# Altium schematic symbol library myLib.SchLib: 2 symbols
Pins are listed as number, name and electrical type; pins without a type are passive.

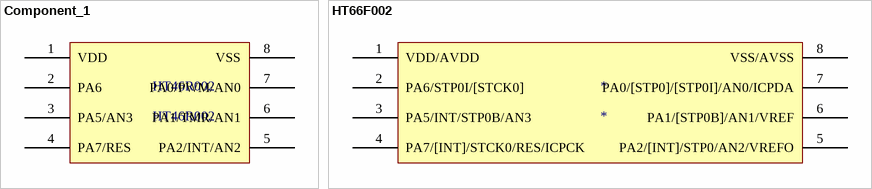
[diagram p0: symbols Component_1 to HT66F002]

## Component_1
designator HT46R002, comment HT46R002
pins: 1 VDD, 2 PA6, 3 PA5/AN3, 4 PA7/RES, 5 PA2/INT/AN2, 6 PA1/TMR/AN1, 7 PA0/PWM/AN0, 8 VSS

## HT66F002
designator *
pins: 1 VDD/AVDD, 2 PA6/STP0I/[STCK0], 3 PA5/INT/STP0B/AN3, 4 PA7/[INT]/STCK0/RES/ICPCK, 5 PA2/[INT]/STP0/AN2/VREFO, 6 PA1/[STP0B]/AN1/VREF, 7 PA0/[STP0]/[STP0I]/AN0/ICPDA, 8 VSS/AVSS